# Altium schematic symbol library PCB_Project1.SCHLIB: 10 symbols
Pins are listed as number, name and electrical type; pins without a type are passive.

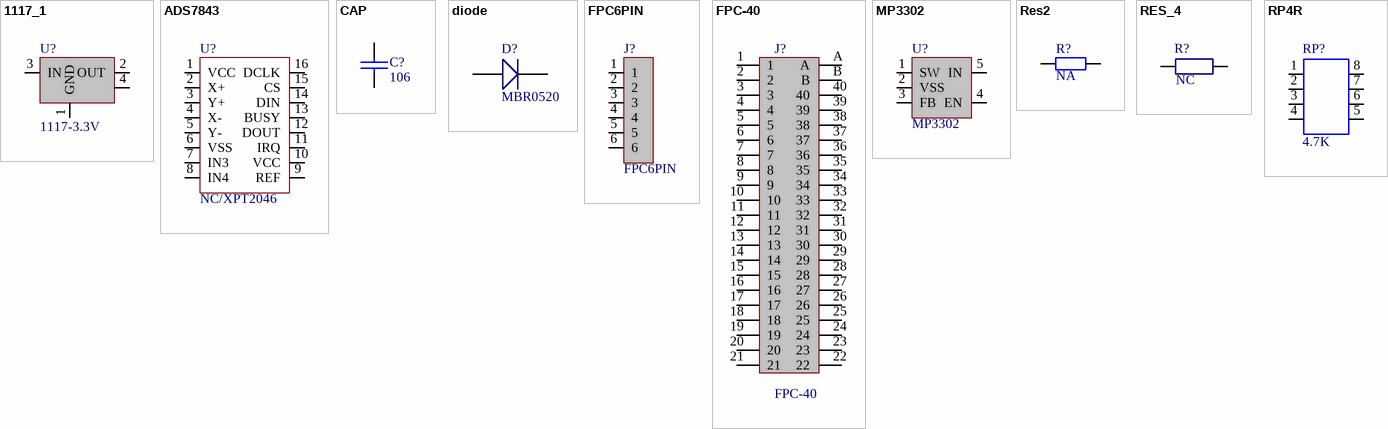
[diagram p0: symbols 1117_1 to RP4R]

## 1117_1
designator U?, comment 1117-3.3V
footprint SOT89-150P409X160-3L (SOT89, 3-Leads, Body 4.50x2.50mm, Pitch 1.50mm, Lead Span 4.1mm, IPC High Density)
pins: 1 GND, 2 OUT, 3 IN, 4

## ADS7843
designator U?, comment NC/XPT2046
footprint SOIC16 (Footprint not found)
pins: 1 VCC, 2 X+, 3 Y+, 4 X-, 5 Y-, 6 VSS, 7 IN3, 8 IN4, 9 REF, 10 VCC, 11 IRQ, 12 DOUT, 13 BUSY, 14 DIN, 15 CS, 16 DCLK

## CAP
designator C?, comment 106
Capacitor
footprint CAPC3216X16M (Chip Capacitor, 2-Leads, Body 3.20x1.60mm, IPC Low Density)
pins: 1, 2

## diode
designator D?, comment MBR0520
pins: 1, 2

## FPC6PIN
designator J?
pins: 1, 2, 3, 4, 5, 6

## FPC-40
designator J?
FPC-40P-0.5mm
footprint FPC-TOP40
pins: 1, 2, 3, 4, 5, 6, 7, 8, 9, 10, 11, 12, 13, 14, 15, 16, 17, 18, 19, 20, 21, 22, 23, 24, 25, 26, 27, 28, 29, 30, 31, 32, 33, 34, 35, 36, 37, 38, 39, 40, A, B
2 alternate drawings of the same symbol

## MP3302
designator U?
pins: 1 SW, 2 VSS, 3 FB, 4 EN, 5 IN

## Res2
designator R?, comment value NA  (hidden comment: N)
Resistor; Published: 8-Jun-2000; LatestRevisionDate: 17-Jul-2002; LatestRevisionNote: Re-released for DXP Platform.; PackageReference: AXIAL-0.4; Publisher: Altium Limited; PackageDescription: Axial Device, Thru-Hole; 2 Leads; 0.4 in Pin Spacing
footprint R0603
simulation model RESISTOR (Resistor)
signal-integrity model Res
pins: 1, 2

## RES_4
designator R?, comment NC
footprint R0603
footprint R0805
footprint FUSE3216X08M (Chip Fuse, 2-Leads, Body 3.20x1.60mm, IPC Low Density)
pins: 1, 2
2 alternate drawings of the same symbol

## RP4R
designator RP?, comment 4.7K
Text Field1: 30; Text Field2: 50
footprint R0603X4
pins: 1 R1, 2 R2, 3 R3, 4 R4, 5 R4, 6 R3, 7 R2, 8 R1